# EAGLE library part USBMIDI (library epiano)
PIN HEADER
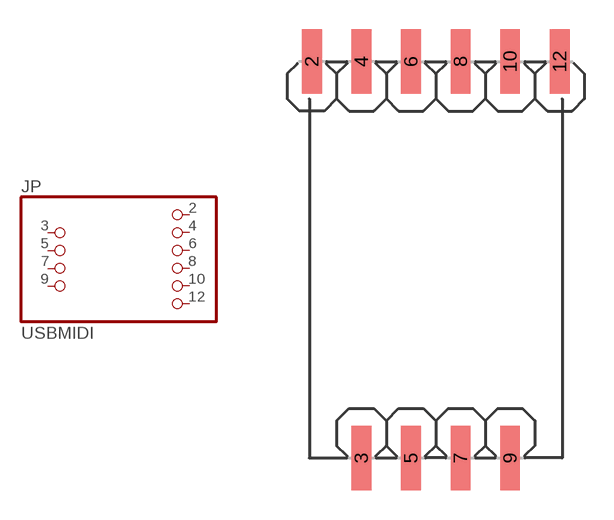
[diagram p1: symbol with the pads of USBMIDI; footprint USBMIDI]

Designator prefix JP

## USBMIDI_2.54-SMD  [USBMIDI]
2  2  pas
3  3  pas
4  4  pas
5  5  pas
6  6  pas
7  7  pas
8  8  pas
9  9  pas
10  10  pas
12  12  pas

## Footprint USBMIDI (pad centres in mm)
PIN HEADER - 2.54 SMD
smd 1.016 x 3.302: 2 -6.35,10.16; 3 -3.81,-10.16; 4 -3.81,10.16; 5 -1.27,-10.16; 6 -1.27,10.16; 7 1.27,-10.16; 8 1.27,10.16; 9 3.81,-10.16; 10 3.81,10.16; 12 6.35,10.16